# EAGLE library part AM3GH-Z (library _mtvl.DIY-PCB)
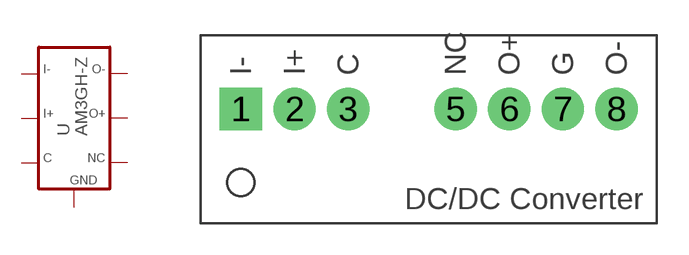
[diagram p5: symbol with the pads of AM3GH-Z; footprint AM3GH-Z]

Designator prefix -

## AM3GH-Z  [AM3GH-Z]
1  1
2  2
3  3
5  5
6  6
7  7
8  8

## Footprint AM3GH-Z (pad centres in mm)
drill 1 pad 2 square: 1 -7.62,-1.587
drill 1 pad 2: 2 -5.08,-1.587; 3 -2.54,-1.587; 5 2.54,-1.587; 6 5.08,-1.587; 7 7.62,-1.587; 8 10.16,-1.587